# Altium footprint library MGM240PB32VNA3.PcbLib: 1 footprints
Each footprint in its own frame and in the unit in brackets; x right, y up, seen from the top. Pads: shape width x height; smd on the part's side, far side on the other; paste and mask are expansions set on the pad; w line width, h text height; cw(c..) or ccw(c..) is an arc to the next point about the centre after c.
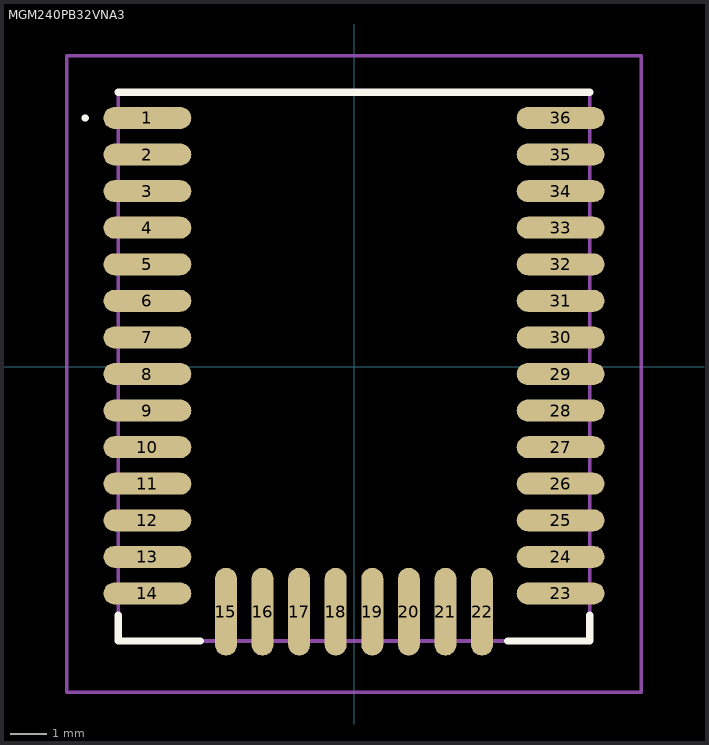
[diagram p0: the footprint, top view; thin cyan lines are the x and y axes]

## MGM240PB32VNA3 [mm]
pads (36):
  oval 2.4x0.6 smd: 1(-5.65,6.8) 2(-5.65,5.8) 3(-5.65,4.8) 4(-5.65,3.8) 5(-5.65,2.8) 6(-5.65,1.8) 7(-5.65,0.8) 8(-5.65,-0.2) 9(-5.65,-1.2) 10(-5.65,-2.2) 11(-5.65,-3.2) 12(-5.65,-4.2) 13(-5.65,-5.2) 14(-5.65,-6.2) 23(5.65,-6.2) 24(5.65,-5.2) 25(5.65,-4.2) 26(5.65,-3.2) 27(5.65,-2.2) 28(5.65,-1.2) 29(5.65,-0.2) 30(5.65,0.8) 31(5.65,1.8) 32(5.65,2.8) 33(5.65,3.8) 34(5.65,4.8) 35(5.65,5.8) 36(5.65,6.8)
  oval 0.6x2.4 smd: 15(-3.5,-6.7) 16(-2.5,-6.7) 17(-1.5,-6.7) 18(-0.5,-6.7) 19(0.5,-6.7) 20(1.5,-6.7) 21(2.5,-6.7) 22(3.5,-6.7)
Top Overlay:
  lines w0.1: -7.4,6.8 cw(c-7.35,6.8) -7.3,6.8 ; -7.4,6.8 -7.4,6.8 ; -7.4,6.8 ccw(c-7.35,6.8) -7.3,6.8 ; -7.3,6.8 -7.3,6.8
  lines w0.2: -6.45,-6.8 -6.45,-7.5 -4.2,-7.5 ; -6.45,7.5 6.45,7.5 ; 4.2,-7.5 6.45,-7.5 6.45,-6.8
Mechanical 15:
  lines w0.1: -6.45,-7.5 6.45,-7.5 6.45,7.5 -6.45,7.5 -6.45,-7.5
Mechanical 20:
  lines w0.1: -7.85,-8.9 7.85,-8.9 7.85,8.5 -7.85,8.5 -7.85,-8.9